# EAGLE library part PLD-12 (library gost_con_pls-pld-pbs-pbd)
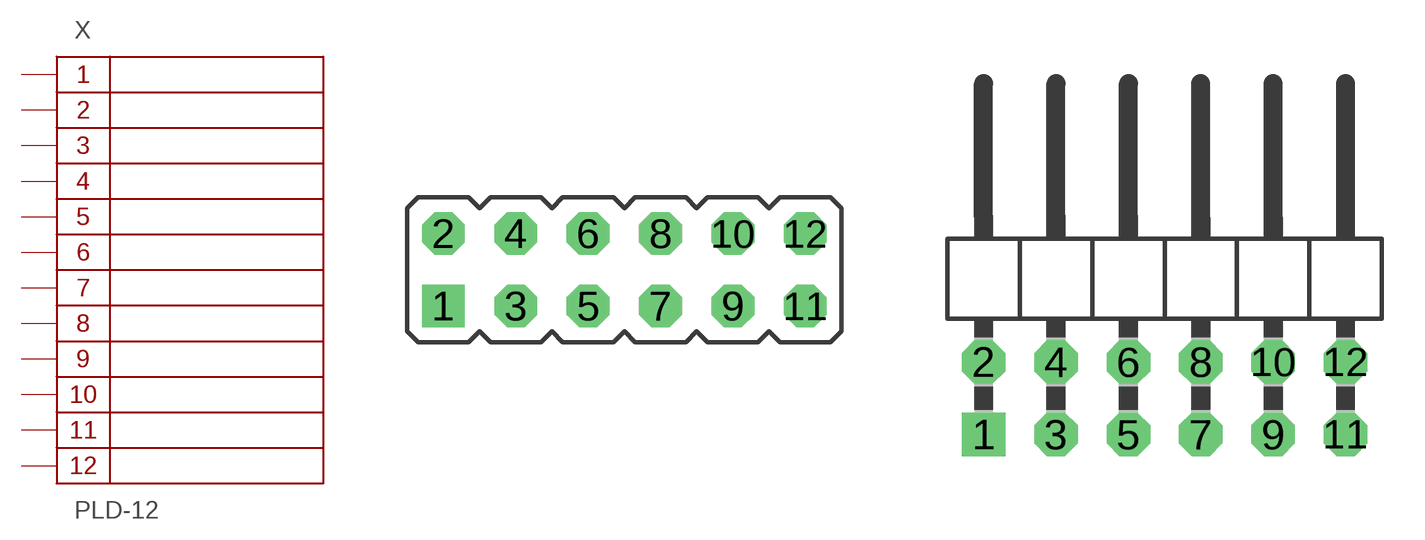
[diagram p0: symbol with the pads of PLD-12; footprints PLD-12, PLD-12R]

Designator prefix X

## PLD-12  [PLD-12]
1  1
2  2
3  3
4  4
5  5
6  6
7  7
8  8
9  9
10  10
11  11
12  12

## PLD-12R  [PLD-12R]
Pads as for PLD-12

## Footprint PLD-12 (pad centres in mm)
drill 0.9 pad 1.5 square: 1 -2.54,-1.27
drill 0.9 pad 1.5 octagon: 2 -2.54,1.27; 3 0,-1.27; 4 0,1.27; 5 2.54,-1.27; 6 2.54,1.27; 7 5.08,-1.27; 8 5.08,1.27; 9 7.62,-1.27; 10 7.62,1.27; 11 10.16,-1.27; 12 10.16,1.27

## Footprint PLD-12R (pad centres in mm)
drill 1.016 square: 1 -6.35,-1.27
drill 1.016 octagon: 2 -6.35,1.27; 3 -3.81,-1.27; 4 -3.81,1.27; 5 -1.27,-1.27; 6 -1.27,1.27; 7 1.27,-1.27; 8 1.27,1.27; 9 3.81,-1.27; 10 3.81,1.27; 11 6.35,-1.27; 12 6.35,1.27